# Altium schematic symbol library SCH - MCU - INFINEON - INFINEON MB9BF566LPMC1 LQFP-64.SchLib: 1 symbol
Pins are listed as number, name and electrical type; pins without a type are passive.

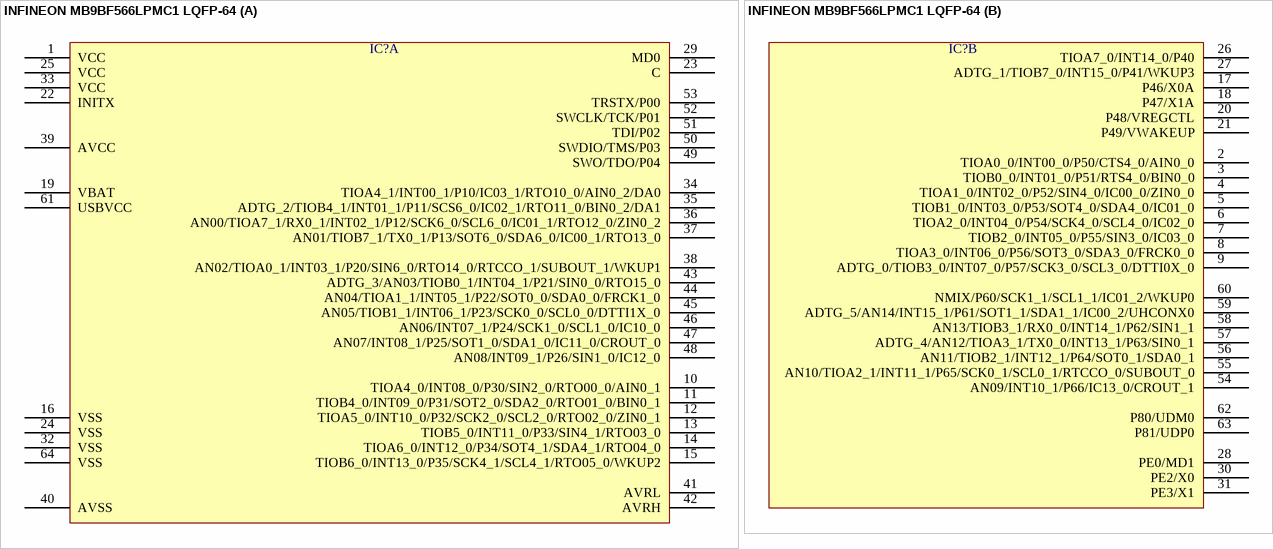
[diagram p0: symbol INFINEON MB9BF566LPMC1 LQFP-64]

## INFINEON MB9BF566LPMC1 LQFP-64
designator IC?  (value not drawn)
part A pins: 1 VCC, 10 TIOA4_0/INT08_0/P30/SIN2_0/RTO00_0/AIN0_1, 11 TIOB4_0/INT09_0/P31/SOT2_0/SDA2_0/RTO01_0/BIN0_1, 12 TIOA5_0/INT10_0/P32/SCK2_0/SCL2_0/RTO02_0/ZIN0_1, 13 TIOB5_0/INT11_0/P33/SIN4_1/RTO03_0, 14 TIOA6_0/INT12_0/P34/SOT4_1/SDA4_1/RTO04_0, 15 TIOB6_0/INT13_0/P35/SCK4_1/SCL4_1/RTO05_0/WKUP2, 16 VSS, 19 VBAT, 22 INITX, 23 C, 24 VSS, 25 VCC, 29 MD0, 32 VSS, 33 VCC, 34 TIOA4_1/INT00_1/P10/IC03_1/RTO10_0/AIN0_2/DA0, 35 ADTG_2/TIOB4_1/INT01_1/P11/SCS6_0/IC02_1/RTO11_0/BIN0_2/DA1, 36 AN00/TIOA7_1/RX0_1/INT02_1/P12/SCK6_0/SCL6_0/IC01_1/RTO12_0/ZIN0_2, 37 AN01/TIOB7_1/TX0_1/P13/SOT6_0/SDA6_0/IC00_1/RTO13_0, 38 AN02/TIOA0_1/INT03_1/P20/SIN6_0/RTO14_0/RTCCO_1/SUBOUT_1/WKUP1, 39 AVCC, 40 AVSS, 41 AVRL, 42 AVRH, 43 ADTG_3/AN03/TIOB0_1/INT04_1/P21/SIN0_0/RTO15_0, 44 AN04/TIOA1_1/INT05_1/P22/SOT0_0/SDA0_0/FRCK1_0, 45 AN05/TIOB1_1/INT06_1/P23/SCK0_0/SCL0_0/DTTI1X_0, 46 AN06/INT07_1/P24/SCK1_0/SCL1_0/IC10_0, 47 AN07/INT08_1/P25/SOT1_0/SDA1_0/IC11_0/CROUT_0, 48 AN08/INT09_1/P26/SIN1_0/IC12_0, 49 SWO/TDO/P04, 50 SWDIO/TMS/P03, 51 TDI/P02, 52 SWCLK/TCK/P01, 53 TRSTX/P00, 61 USBVCC, 64 VSS
part B pins: 2 TIOA0_0/INT00_0/P50/CTS4_0/AIN0_0, 3 TIOB0_0/INT01_0/P51/RTS4_0/BIN0_0, 4 TIOA1_0/INT02_0/P52/SIN4_0/IC00_0/ZIN0_0, 5 TIOB1_0/INT03_0/P53/SOT4_0/SDA4_0/IC01_0, 6 TIOA2_0/INT04_0/P54/SCK4_0/SCL4_0/IC02_0, 7 TIOB2_0/INT05_0/P55/SIN3_0/IC03_0, 8 TIOA3_0/INT06_0/P56/SOT3_0/SDA3_0/FRCK0_0, 9 ADTG_0/TIOB3_0/INT07_0/P57/SCK3_0/SCL3_0/DTTI0X_0, 17 P46/X0A, 18 P47/X1A, 20 P48/VREGCTL, 21 P49/VWAKEUP, 26 TIOA7_0/INT14_0/P40, 27 ADTG_1/TIOB7_0/INT15_0/P41/WKUP3, 28 PE0/MD1, 30 PE2/X0, 31 PE3/X1, 54 AN09/INT10_1/P66/IC13_0/CROUT_1, 55 AN10/TIOA2_1/INT11_1/P65/SCK0_1/SCL0_1/RTCCO_0/SUBOUT_0, 56 AN11/TIOB2_1/INT12_1/P64/SOT0_1/SDA0_1, 57 ADTG_4/AN12/TIOA3_1/TX0_0/INT13_1/P63/SIN0_1, 58 AN13/TIOB3_1/RX0_0/INT14_1/P62/SIN1_1, 59 ADTG_5/AN14/INT15_1/P61/SOT1_1/SDA1_1/IC00_2/UHCONX0, 60 NMIX/P60/SCK1_1/SCL1_1/IC01_2/WKUP0, 62 P80/UDM0, 63 P81/UDP0